# Altium schematic symbol library OR Gate.SchLib: 1 symbol
Pins are listed as number, name and electrical type; pins without a type are passive.

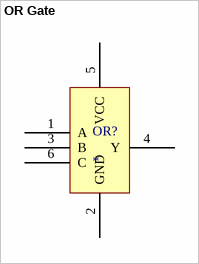
[diagram p0: symbol OR Gate]

## OR Gate
designator OR?
3 Input OR Gate; Supplier: DigiKey; Supplier Part #: 296-15943-1-ND
footprint TSOP65P210X110-6N (TSOP, 6-Leads, Body 2.2x1.4mm (max), Pitch 0.65mm, IPC Medium Density)
pins: 1 A, 2 GND, 3 B, 4 Y, 5 VCC, 6 C